# EAGLE library part LORA1276 (library lora1276)
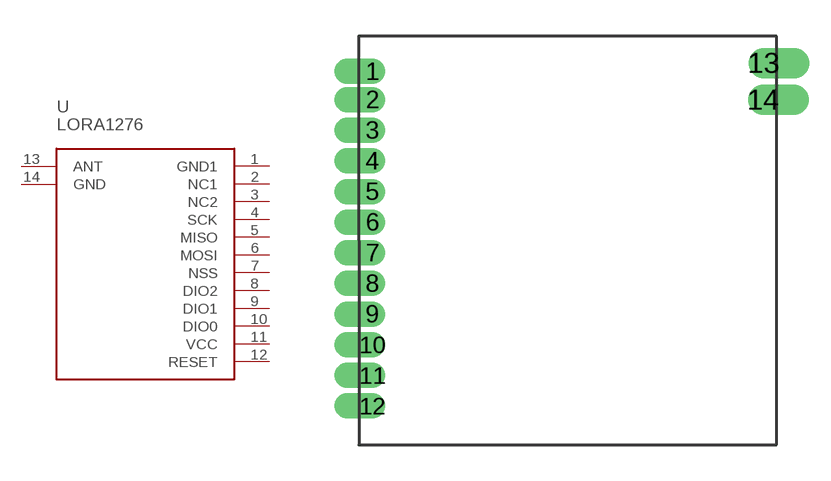
[diagram p0: symbol with the pads of LORA1276; footprint LORA1276]

Designator prefix U

## LORA1276  [LORA1276]
1  GND1  pwr
2  NC1  nc
3  NC2  nc
4  SCK  in
5  MISO  out
6  MOSI  in
7  NSS  in
8  DIO2
9  DIO1
10  DIO0
11  VCC  pwr
12  RESET  in
13  ANT  in
14  GND  pwr

## Footprint LORA1276 (pad centres in mm)
drill 0.55 pad 1.016 offset: 1 -7.06,6.23; 2 -7.06,5.06; 3 -7.06,3.79; 4 -7.06,2.52; 5 -7.06,1.25; 6 -7.06,-0.02; 7 -7.06,-1.29; 8 -7.06,-2.56; 9 -7.06,-3.83; 10 -7.06,-5.1; 11 -7.06,-6.37; 12 -7.06,-7.64
drill 0.55 pad 1.27 offset: 13 9.17,6.575; 14 9.15,5.05